# EAGLE library part CMY210 (library RADAR)
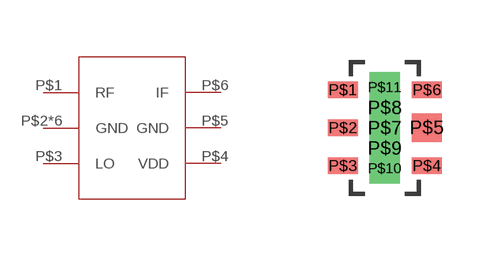
[diagram p2: symbol with the pads of CMY210; footprint CMY210]

Designator prefix -

## CMY210  [CMY210]
P$1  RF
P$2  GND
P$3  LO
P$4  VDD
P$5  GND
P$6  IF
P$7  GND
P$8  GND
P$9  GND
P$10  GND
P$11  GND

## Footprint CMY210 (pad centres in mm)
smd 0.752 x 0.402: P$1 -1.051,0.95; P$2 -1.05,0; P$3 -1.051,-0.95; P$4 1.051,-0.95; P$6 1.051,0.95
smd 0.752 x 0.702: P$5 1.05,0
drill 0.254 pad 0.61 square: P$7 0,0; P$8 0,0.508; P$9 0,-0.508; P$10 0,-1.016; P$11 0,1.016